# Altium footprint library 功率控制板.PcbLib: 36 footprints (part 3 of 3)
Each footprint in its own frame and in the unit in brackets; x right, y up, seen from the top. Pads: shape width x height; smd on the part's side, far side on the other; paste and mask are expansions set on the pad; w line width, h text height; cw(c..) or ccw(c..) is an arc to the next point about the centre after c.
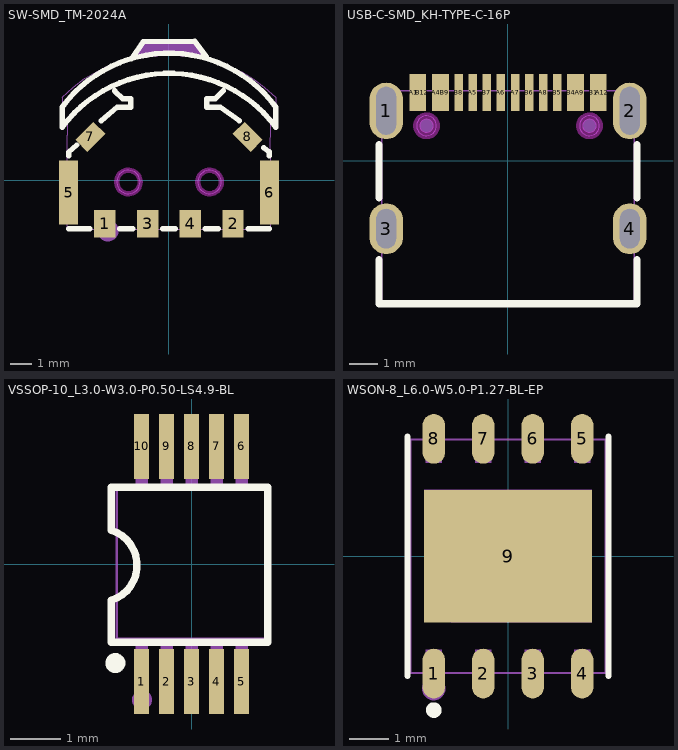
[diagram p2: the footprints below, top view; thin cyan lines are the x and y axes]

## SW-SMD_TM-2024A [mm]
pads (8):
  rect 1x1.3 smd: 1(-3,-2.03) 2(3,-2.03) 3(-1,-2.03) 4(1,-2.03)
  rect 0.9x3 smd: 5(-4.7,-0.58) 6(4.7,-0.58)
  rect 1.2x0.8 smd rot 45: 7(-3.68,2.03)
  rect 1.2x0.8 smd rot 135: 8(3.68,2.03)
Top Overlay:
  lines w0.25: -5,3.415 -5,2.487 cw(c0.001,-1.213) 5.001,2.487 5,3.431 ccw(c0,-0.268) -5,3.431 ; -1.216,6.47 -1.753,5.694 -1.216,6.484 1.213,6.504 1.753,5.789
  lines w0.254: -4.7,-2.279 -3.7,-2.279 ; -4.699,1.143 -4.699,1.326 -4.318,1.651 ; -3.178,2.792 -2.416,3.427 -1.781,3.427 -1.781,3.808 -2.162,3.808 -2.543,4.189 ; -2.3,-2.279 -1.7,-2.279 ; -0.3,-2.279 0.3,-2.279 ; 1.7,-2.279 2.3,-2.279 ; 2.537,4.189 2.156,3.808 1.775,3.808 1.775,3.427 2.41,3.427 3.299,2.792 ; 3.7,-2.279 4.7,-2.279 ; 4.445,1.524 4.699,1.326 4.699,1.143
Mechanical 1:
  circle w0.005: c-1.9,-0.08 r0.55
  circle w0.005: c1.9,-0.08 r0.55
Mechanical 6:
  circle w0.5: c-2.86,-2.36 r0.25
  region: -1.61,5.75 0.003,5.82 1.57,5.75 1.118,6.588 -1.144,6.582
Mechanical 15:
  region: -3.963,1.959 -3.609,2.313 -3.397,2.101 -3.751,1.747
  region: 3.751,1.747 3.397,2.101 3.609,2.313 3.963,1.96
  region: -4.754,0.67 -4.454,0.67 -4.454,-1.83 -4.754,-1.83
  region: 4.44,0.67 4.74,0.67 4.74,-1.83 4.44,-1.83
  region: -3.325,-1.598 -2.675,-1.598 -2.675,-2.298 -3.325,-2.298
  region: -1.325,-1.598 -0.675,-1.598 -0.675,-2.298 -1.325,-2.298
  region: 0.675,-1.598 1.325,-1.598 1.325,-2.298 0.675,-2.298
  region: 2.675,-1.598 3.325,-1.598 3.325,-2.298 2.675,-2.298
  lines w0.051: -5.003,3.877 -4.476,4.357 -3.94,4.771 -3.357,5.105 -2.816,5.382 -2.247,5.603 -1.473,5.899 -1.203,6.431 -1.123,6.604 1.1,6.615 1.509,5.911 2.173,5.618 2.831,5.368 3.405,5.072 3.97,4.733 4.468,4.362 4.995,3.887 5.001,2.825 4.886,2.739 4.758,2.706 4.742,1.29 4.748,-2.284 -4.755,-2.298 -4.755,-0.072 -4.755,2.113 -4.762,2.728 -4.948,2.736 -5.001,2.885 -5.003,3.877
Multi-Layer keep-out:
  circle w0.254: c-1.9,-0.08 r0.55
  circle w0.254: c1.9,-0.08 r0.55

## USB-C-SMD_KH-TYPE-C-16P [mm]
pads (20):
  oval 1.2x2 hole 0.7 slot 1.7 at 90 deg: 1(-4.32,1.765) 2(4.32,1.765)
  oval 1.2x1.8 hole 0.7 slot 1.4 at 90 deg: 3(-4.32,-2.415) 4(4.32,-2.415)
  rect 0.3x1.3 smd paste-100 mask+0.05: A1(-3.35,2.415) A4(-2.55,2.415) A5(-1.25,2.415) A6(-0.25,2.415) A7(0.25,2.415) A8(1.25,2.415) A9(2.55,2.415) A12(3.35,2.415) B1(3.05,2.415) B4(2.25,2.415) B5(1.75,2.415) B6(0.75,2.415) B7(-0.75,2.415) B8(-1.75,2.415) B9(-2.25,2.415) B12(-3.05,2.415)
Top Overlay:
  lines w0.254: -4.572,-3.507 -4.572,-5.08 4.572,-5.08 4.572,-3.507 ; -4.572,-1.323 -4.572,0.573 ; 4.572,-1.323 4.572,0.573
Top Paste:
  drawing of 16 lines, arcs and shapes, not listed
Mechanical 1:
  circle w0.005: c2.89,1.235 r0.35
  circle w0.005: c-2.89,1.235 r0.35
Mechanical 6:
  circle w0.25: c2.89,1.235 r0.125
  circle w0.25: c-2.89,1.235 r0.125
Mechanical 15:
  region: -3.2,2.76 -3,2.76 -3,1.76 -3.2,1.76
  region: -3.4,2.76 -3.2,2.76 -3.2,1.76 -3.4,1.76
  region: -2.4,2.76 -2.2,2.76 -2.2,1.76 -2.4,1.76
  region: -2.6,2.76 -2.4,2.76 -2.4,1.76 -2.6,1.76
  region: 2.4,2.76 2.6,2.76 2.6,1.76 2.4,1.76
  region: 2.2,2.76 2.4,2.76 2.4,1.76 2.2,1.76
  region: 3.2,2.76 3.4,2.76 3.4,1.76 3.2,1.76
  region: 3,2.76 3.2,2.76 3.2,1.76 3,1.76
  region: -1.85,2.76 -1.65,2.76 -1.65,1.76 -1.85,1.76
  region: -1.35,2.76 -1.15,2.76 -1.15,1.76 -1.35,1.76
  region: -0.85,2.76 -0.65,2.76 -0.65,1.76 -0.85,1.76
  region: -0.35,2.76 -0.15,2.76 -0.15,1.76 -0.35,1.76
  region: 0.15,2.76 0.35,2.76 0.35,1.76 0.15,1.76
  region: 0.65,2.76 0.85,2.76 0.85,1.76 0.65,1.76
  region: 1.65,2.76 1.85,2.76 1.85,1.76 1.65,1.76
  region: 1.15,2.76 1.35,2.76 1.35,1.76 1.15,1.76
  region: 4.17,-2.015 4.47,-2.015 4.47,-2.815 4.17,-2.815
  region: -4.47,-2.015 -4.17,-2.015 -4.17,-2.815 -4.47,-2.815
  region: 4.17,2.315 4.47,2.315 4.47,1.215 4.17,1.215
  region: -4.47,2.315 -4.17,2.315 -4.17,1.215 -4.47,1.215
  lines w0.051: -4.47,-5.08 4.47,-5.08 4.47,2.47 -4.47,2.47 -4.47,-5.08
Multi-Layer keep-out:
  circle w0.254: c2.89,1.235 r0.35
  circle w0.254: c-2.89,1.235 r0.35

## VSSOP-10_L3.0-W3.0-P0.50-LS4.9-BL [mm]
pads (10):
  rect 0.3x1.3 smd paste+0 mask+0.015: 1(-1,-2.35) 2(-0.5,-2.35) 3(0,-2.35) 4(0.5,-2.35) 5(1,-2.35)
  rect 0.3x1.3 smd: 6(1,2.35) 7(0.5,2.35) 8(0,2.35) 9(-0.5,2.35) 10(-1,2.35)
Top Overlay:
  circle w0.2: c-1.524,-1.981 r0.1
  lines w0.15: -1.603,-1.562 -1.603,-0.724 ccw(c-1.82,-0.026) -1.603,0.673 ; -1.603,0.698 -1.603,1.537 ; -1.578,-1.562 1.522,-1.562 ; -1.578,1.537 1.522,1.537 1.522,-1.564
Mechanical 6:
  circle w0.2: c-0.99,-2.718 r0.1
Mechanical 15:
  region: -1.12,-2.45 -1.12,-1.9 -0.88,-1.9 -0.88,-2.45
  region: -1.12,-1.91 -1.12,-1.49 -0.88,-1.49 -0.88,-1.91
  region: -0.62,-2.45 -0.62,-1.9 -0.38,-1.9 -0.38,-2.45
  region: -0.62,-1.91 -0.62,-1.49 -0.38,-1.49 -0.38,-1.91
  region: -0.12,-2.45 -0.12,-1.9 0.12,-1.9 0.12,-2.45
  region: -0.12,-1.91 -0.12,-1.49 0.12,-1.49 0.12,-1.91
  region: 0.38,-2.45 0.38,-1.9 0.62,-1.9 0.62,-2.45
  region: 0.38,-1.91 0.38,-1.49 0.62,-1.49 0.62,-1.91
  region: 0.88,-2.45 0.88,-1.9 1.12,-1.9 1.12,-2.45
  region: 0.88,-1.91 0.88,-1.49 1.12,-1.49 1.12,-1.91
  region: 0.88,1.9 0.88,2.45 1.12,2.45 1.12,1.9
  region: 0.88,1.49 0.88,1.91 1.12,1.91 1.12,1.49
  region: 0.38,1.9 0.38,2.45 0.62,2.45 0.62,1.9
  region: 0.38,1.49 0.38,1.91 0.62,1.91 0.62,1.49
  region: -0.12,1.9 -0.12,2.45 0.12,2.45 0.12,1.9
  region: -0.12,1.49 -0.12,1.91 0.12,1.91 0.12,1.49
  region: -0.62,1.9 -0.62,2.45 -0.38,2.45 -0.38,1.9
  region: -0.62,1.49 -0.62,1.91 -0.38,1.91 -0.38,1.49
  region: -1.12,1.9 -1.12,2.45 -0.88,2.45 -0.88,1.9
  region: -1.12,1.49 -1.12,1.91 -0.88,1.91 -0.88,1.49
  lines w0.051: -1.5,-1.5 -1.5,1.5 1.5,1.5 1.5,-1.5 -1.5,-1.5

## WSON-8_L6.0-W5.0-P1.27-BL-EP [mm]
pads (9):
  oval 0.581x1.276 smd: 1(-1.905,-3.013) 2(-0.635,-3.013) 3(0.635,-3.013) 4(1.905,-3.013) 5(1.905,3.013) 6(0.635,3.013) 7(-0.635,3.013) 8(-1.905,3.013)
  rect 4.3x3.4 smd: 9(0,0)
Top Overlay:
  circle w0.2: c-1.905,-3.95 r0.1
  lines w0.152: -2.576,-3.076 -2.576,3.076 ; 2.576,-3.076 2.576,3.076
Mechanical 6:
  circle w0.3: c-1.905,-3.4 r0.15
Mechanical 15:
  region: -2.15,-1.02 -2.15,1.7 2.15,1.7 2.15,-1.7 -1.47,-1.7
  region: 1.698,3 1.698,2.4 2.112,2.4 2.112,3
  region: 0.428,3 0.428,2.4 0.842,2.4 0.842,3
  region: -0.842,3 -0.842,2.4 -0.428,2.4 -0.428,3
  region: -2.112,3 -2.112,2.4 -1.698,2.4 -1.698,3
  region: 1.698,-3 1.698,-2.4 2.112,-2.4 2.112,-3
  region: 0.428,-3 0.428,-2.4 0.842,-2.4 0.842,-3
  region: -0.842,-3 -0.842,-2.4 -0.428,-2.4 -0.428,-3
  region: -2.112,-3 -2.112,-2.4 -1.698,-2.4 -1.698,-3
  lines w0.051: -2.5,-3 2.5,-3 2.5,3 -2.5,3 -2.5,-3